# Altium schematic symbol library Sensors.SchLib: 21 symbols
Pins are listed as number, name and electrical type; pins without a type are passive.

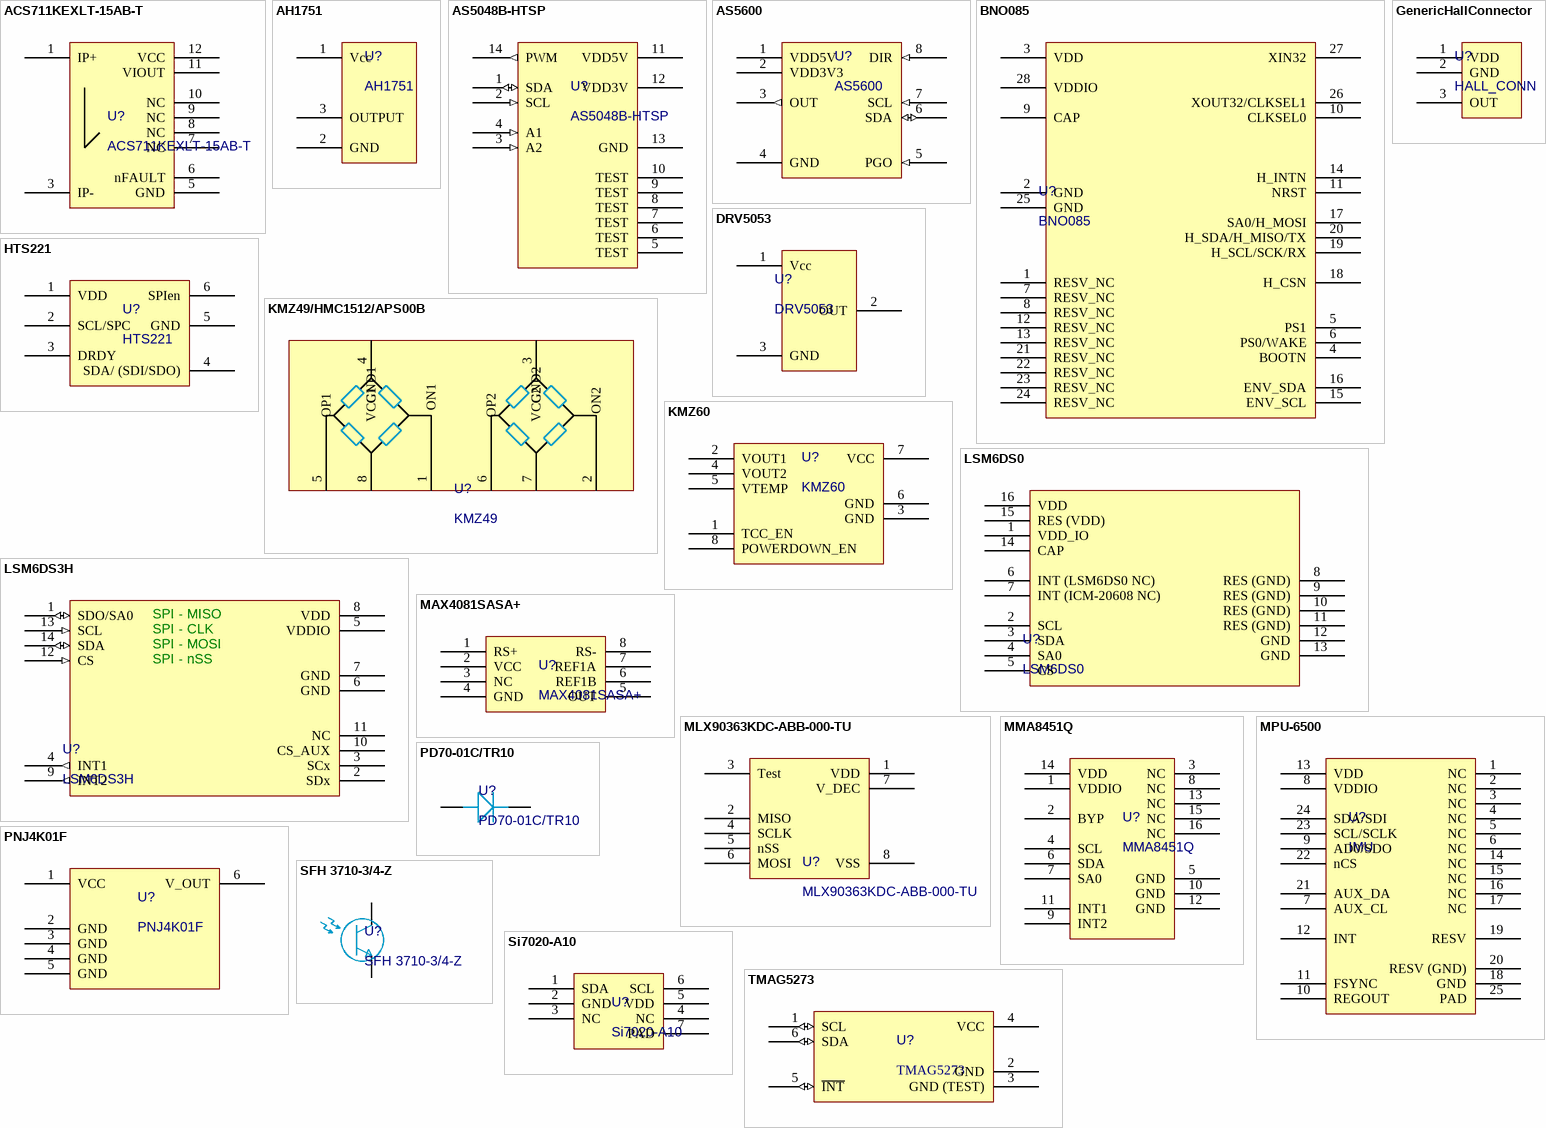
[diagram p0: symbols ACS711KEXLT-15AB-T to TMAG5273]

## ACS711KEXLT-15AB-T
designator U?
+/- 15.5A Hall Effect Current Sensor
footprint ACS711KEXLT-15AB-T - QFN50P300X300X75-16N (QFN, 16-Leads, Body 3.0x3.0mm (max), Pitch 0.50mm, IPC Medium Density)
footprint ACS711KEXLT-15AB-T - QFN50P300X300X75-16N - single layer (QFN, 16-Leads, Body 3.0x3.0mm (max), Pitch 0.50mm, IPC Medium Density)
pins: 1 IP+, 3 IP-, 5 GND, 6 nFAULT, 7 NC, 8 NC, 9 NC, 10 NC, 11 VIOUT, 12 VCC

## AH1751
designator U?
Hall Effect Sensor
footprint AH1751 (SOT23, 3-Leads, Body 3.1x3.0mm (max), Pitch 0.95mm, IPC Medium Density)
pins: 1 Vcc, 2 GND, 3 OUTPUT

## AS5048B-HTSP
designator U?
Magnetic rotation sensor, I2C output
footprint AS5048B - TSOP65P640X120-14M (TSOP, 14-Leads, Body 5.00x4.40mm, Pitch 0.65mm, IPC Low Density)
pins: 1 SDA (io), 2 SCL (in), 3 A2 (in), 4 A1 (in), 5 TEST (power), 6 TEST (power), 7 TEST (power), 8 TEST (power), 9 TEST (power), 10 TEST (power), 11 VDD5V (power), 12 VDD3V (power), 13 GND (power), 14 PWM (out)

## AS5600
designator U?
Magnetic rotation sensor, PWM output; Supplier 1: Arrow; Supplier Part Number 1: JxJW4JDkv1L1ylkwpNJcAP-as8OSojp580yXT3MgaiM; Supplier 2: Digi-Key; Supplier Part Number 2: AS5600-ASOMCT-ND
footprint AS5600 (SOIC, 8-Leads, Body 4.9x3.9mm (max), Pitch 1.27mm, IPC Medium Density)
pins: 1 VDD5V (power), 2 VDD3V3 (power), 3 OUT (out), 4 GND, 5 PGO (in), 6 SDA (io), 7 SCL (in), 8 DIR (in)

## BNO085
designator U?
6-axis Accelerometer and Gyroscope + Sensor Fusion
footprint BNO085 - QFN50P380X520X118-28M (QFN, 28-Leads, Body 3.80x5.20mm, Pitch 0.50mm, IPC Low Density)
pins: 1 RESV_NC, 2 GND, 3 VDD, 4 BOOTN, 5 PS1, 6 PS0/WAKE, 7 RESV_NC, 8 RESV_NC, 9 CAP, 10 CLKSEL0, 11 NRST, 12 RESV_NC, 13 RESV_NC, 14 H_INTN, 15 ENV_SCL, 16 ENV_SDA, 17 SA0/H_MOSI, 18 H_CSN, 19 H_SCL/SCK/RX, 20 H_SDA/H_MISO/TX, 21 RESV_NC, 22 RESV_NC, 23 RESV_NC, 24 RESV_NC, 25 GND, 26 XOUT32/CLKSEL1, 27 XIN32, 28 VDDIO

## DRV5053
designator U?
Hall Effect Sensor, Analog ratiometric output; Supplier 1: Digi-Key; Supplier Part Number 1: 296-38457-1-ND; Supplier 2: Digi-Key; Supplier Part Number 2: 480-3845-1-ND; Supplier 3: Digi-Key; Supplier Part Number 3: AH49ENTR-G1DICT-ND
footprint DRV5053 - SOT95P255X112-3N (SOT23, 3-Leads, Body 2.92x2.55mm, Pitch 0.95mm, IPC Medium Density)
pins: 1 Vcc, 2 OUT, 3 GND

## GenericHallConnector
designator U?, comment HALL_CONN
Thru-hole Hall Effect sensor footprint
footprint GENERIC_HALL_CONN
pins: 1 VDD, 2 GND, 3 OUT

## HTS221
designator U?
Humidity Sensor; Supplier 1: Digi-Key; Supplier Part Number 1: 497-15382-1-ND; Supplier 2: Mouser; Supplier Part Number 2: 511-HTS221TR
footprint HTS221 - DFN100P200X100-4N (DFN, 4-Leads, Body 2.00x2.00mm, Pitch 1.00mm, IPC Medium Density)
pins: 1 VDD, 2 SCL/SPC, 3 DRDY, 4 SDA/ (SDI/SDO), 5 GND, 6 SPIen

## KMZ49/HMC1512/APS00B
designator U?, comment KMZ49
Hall Effect Rotation Sensor, +/- 90 degrees
footprint KMZ49 - SOIC127P600X175-8N (SOIC, 8-Leads, Body 4.90x3.90mm, Pitch 1.27mm, IPC Medium Density)
pins: 1             ON1 "Output Voltage, Bridge 1", 2            ON2 "Output Voltage, Bridge 2", 3                VCC2 "Supply Voltage, Bridge 2", 4                VCC1 "Supply Voltage, Bridge 1", 5           OP1 "Output Voltage, Bridge 1", 6           OP2 "Output Voltage, Bridge 2", 7               GND2 "Ground 2", 8               GND1 "Ground 1"

## KMZ60
designator U?
GMR Angle Sensor With Integrated Amplifier; Supplier 1: Digi-Key; Supplier Part Number 1: 568-8400-1-ND; Supplier 2: Arrow; Supplier Part Number 2: dRwrLnpsA_Vj2uoNcfYi___chkju63ea746AohcLna8
footprint KMZ60 - SOIC127P600X175-8M (SOIC, 8-Leads, Body 4.90x3.90mm, Pitch 1.27mm, IPC Low Density)
pins: 1 TCC_EN, 2 VOUT1, 3 GND, 4 VOUT2, 5 VTEMP, 6 GND, 7 VCC, 8 POWERDOWN_EN

## LSM6DS0
designator U?
3 axis Accelerometer and Gyroscope; Supplier 1: Digi-Key; Supplier Part Number 1: 497-14855-1-ND; Supplier 2: Arrow; Supplier Part Number 2: BSnPaxrF7D7Yq5JrpW1vIWtBvOnNOZ1CLrDOm9zHmP8
footprint QFN50P300X300X86-16N (QFN, 16-Leads, Body 3.0x3.0mm (max), Pitch 0.50mm, IPC Medium Density)
pins: 1 VDD_IO, 2 SCL, 3 SDA, 4 SA0, 5 CS, 6 INT (LSM6DS0 NC) "INT pin for ICM-20608 NC for LSM6DS0.", 7 INT (ICM-20608 NC) "INT pin for LSM6DS0. NC for ICM-20608.", 8 RES (GND), 9 RES (GND), 10 RES (GND), 11 RES (GND), 12 GND, 13 GND, 14 CAP, 15 RES (VDD), 16 VDD

## LSM6DS3H
designator U?
6-axis Accelerometer and Gyroscope; Supplier 1: Digi-Key; Supplier Part Number 1: 497-14855-1-ND; Supplier 2: Arrow
footprint IMU - QFN50P300X250X86-14M (QFN, 14-Leads, Body 3.00x2.50mm, Pitch 0.50mm, IPC Low Density)
pins: 1 SDO/SA0 (io) "SPI Data Out/I2C Address LSB select", 2 SDx (power) "VDDIO/GND (mode 1) / I2C/SPI (mode 2/3)", 3 SCx "VDDIO/GND (mode 1)", 4 INT1 (out), 5 VDDIO (power), 6 GND (power) "INT pin for ICM-20608 NC for LSM6DS0.", 7 GND (power) "INT pin for LSM6DS0. NC for ICM-20608.", 8 VDD (power), 9 INT2 (out), 10 CS_AUX, 11 NC, 12 CS (in), 13 SCL (in), 14 SDA (io)
text: SPI - MISO; SPI - CLK; SPI - MOSI; SPI - nSS

## MAX4081SASA+
designator U?
Current Sense Amplifier; Supplier 1: Digi-Key; Supplier Part Number 1: MAX4081SASA+-ND
footprint MAX4081SASA+ (SOIC, 8-Leads, Body 5.0x3.8mm (max), Pitch 1.27mm, IPC Medium Density)
pins: 1 RS+, 2 VCC, 3 NC, 4 GND, 5 OUT, 6 REF1B, 7 REF1A, 8 RS-

## MLX90363KDC-ABB-000-TU
designator U?
3D Magnetic Orientation Sensor
footprint MLX90363KDC-ABB-000-TU (SOIC, 8-Leads, Body 5.0x4.0mm (max), Pitch 1.27mm, IPC Medium Density)
pins: 1 VDD, 2 MISO, 3 Test, 4 SCLK, 5 nSS, 6 MOSI, 7 V_DEC, 8 VSS

## MMA8451Q
designator U?
Freescale 3 axis accelerometer; Supplier 1: Digi-Key; Supplier Part Number 1: MMA8451QR1CT-ND; Supplier 2: Mouser; Supplier Part Number 2: 841-MMA8451QR1; Supplier 3: Arrow; Supplier Part Number 3: Wuwoy3rbOBp_KfOiww-aPZIhYpALHGCLGPTkfgB_RG0
footprint MMA8451Q - QFN50P300X300X100-16N (QFN, 16-Leads, Body 3.0x3.0mm (max), Pitch 0.50mm, IPC Medium Density)
pins: 1 VDDIO, 2 BYP, 3 NC, 4 SCL, 5 GND, 6 SDA, 7 SA0, 8 NC, 9 INT2, 10 GND, 11 INT1, 12 GND, 13 NC, 14 VDD, 15 NC, 16 NC

## MPU-6500
designator U?, comment IMU
6-Axis IMU with sensor fusion
footprint MPU-6500_QFN24 (QFN, 24-Leads, Body 3.1x3.1mm (max), Pitch 0.40mm, IPC Medium Density)
pins: 1 NC, 2 NC, 3 NC, 4 NC, 5 NC, 6 NC, 7 AUX_CL, 8 VDDIO, 9 AD0/SDO, 10 REGOUT, 11 FSYNC, 12 INT, 13 VDD, 14 NC, 15 NC, 16 NC, 17 NC, 18 GND, 19 RESV, 20 RESV (GND), 21 AUX_DA, 22 nCS, 23 SCL/SCLK, 24 SDA/SDI, 25 PAD

## PD70-01C/TR10
designator U?
Photodiode 940nm 50ns 2-SMD; Supplier 1: Digi-Key; Supplier Part Number 1: 1080-1372-1-ND
footprint PD70-01C/TR10 (Molded Diode, 2-Leads, Body 4.40x3.90mm, IPC Low Density)
pins: 1 Anode, 2 Cathode

## PNJ4K01F
designator U?
Optical Sensor Ambient 560nm Current 6-SMD; Supplier 1: Digi-Key; Supplier Part Number 1: 568-8400-1-ND; Supplier 2: Arrow; Supplier Part Number 2: dRwrLnpsA_Vj2uoNcfYi___chkju63ea746AohcLna8
footprint PNJ4K01F
pins: 1 VCC, 2 GND, 3 GND, 4 GND, 5 GND, 6 V_OUT

## SFH 3710-3/4-Z
designator U?
Phototransistor 570nm 0805 (2012 Metric); Supplier 1: Digi-Key; Supplier Part Number 1: 475-1268-1-ND
footprint SFH 3710-3/4-Z (Chip Capacitor, 2-Leads, Body 2.0x1.3mm, IPC Medium Density)
pins: 1 Collector, 2 Emitter

## Si7020-A10
designator U?
Humidity Sensor
footprint Si7020-A10-GMR (QFN, 6-Leads, Body 3.0x3.0mm (max), Pitch 1.00mm, IPC Medium Density)
pins: 1 SDA, 2 GND, 3 NC, 4 NC, 5 VDD, 6 SCL, 7 PAD

## TMAG5273
designator U?
Low-Power Linear 3D Hall-Effect Sensor With I2C Interface
footprint TMAG5273 - SOT95P280X145-6M (SOT23, 6-Leads, Body 2.90x2.80mm, Pitch 0.95mm, IPC Low Density)
pins: 1 SCL (io), 2 GND, 3 GND (TEST), 4 VCC, 5 ~{INT} (io), 6 SDA (io)